# EAGLE library part ADUM1250 (library analog_devices_martin)
Hot Swappable Dual I2C Isolators
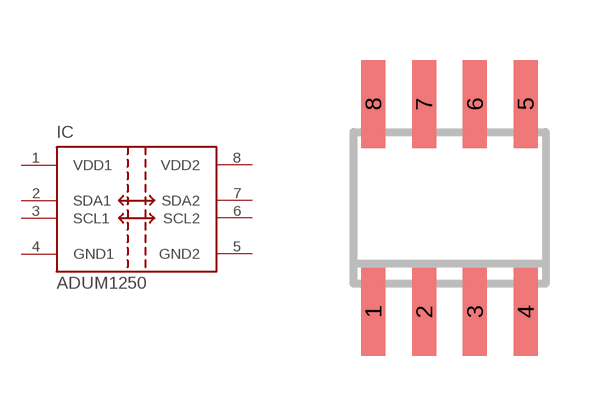
[diagram p0: symbol with the pads of SO8; footprint SO8]

Designator prefix IC

## ADUM1250  [SO8]
1  VDD1  pwr
2  SDA1
3  SCL1
4  GND1  sup
5  GND2  sup
6  SCL2
7  SDA2
8  VDD2  pwr

## Footprint SO8 (pad centres in mm)
8-Lead Small Outline IC (SO-8) Source: http://www.analog.com/UploadedFiles/Data_Sheets/703465986AD8611_2_0.pdf
smd 0.6 x 2.2: 1 -1.905,-2.6; 2 -0.635,-2.6; 3 0.635,-2.6; 4 1.905,-2.6; 5 1.905,2.6; 6 0.635,2.6; 7 -0.635,2.6; 8 -1.905,2.6